# Altium schematic symbol library AC-DC converters (IRM-10).SchLib: 1 symbol
Pins are listed as number, name and electrical type; pins without a type are passive.

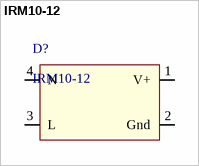
[diagram p0: symbol IRM10-12]

## IRM10-12
designator D?
AC/DC преобразователь, 12В,0.85А,10Вт; Input voltage range: 85-305VAC; Operation temperature range: -30 to +70℃; Output voltage: 12VDC; Iout: 0.85A
footprint IRM-10
pins: 1 V+, 2 Gnd, 3 L, 4 N